# Altium footprint library DO-220AA.PcbLib: 1 footprints
Each footprint in its own frame and in the unit in brackets; x right, y up, seen from the top. Pads: shape width x height; smd on the part's side, far side on the other; paste and mask are expansions set on the pad; w line width, h text height; cw(c..) or ccw(c..) is an arc to the next point about the centre after c.
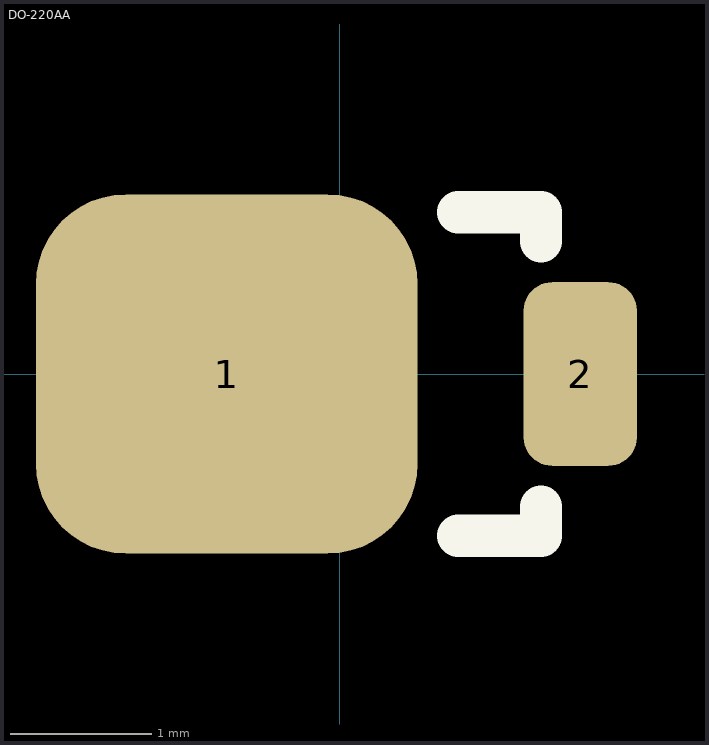
[diagram p0: the footprint, top view; thin cyan lines are the x and y axes]

## DO-220AA [mm]
pads (2):
  rrect50% 2.7x2.54 smd: 1(-0.8,0)
  rrect50% 0.8x1.3 smd: 2(1.7,0)
Top Overlay:
  lines w0.3: 0.838,-1.143 1.422,-1.143 1.422,-0.94 ; 0.838,1.143 1.422,1.143 1.422,0.94
3D body "User Library-DO-220AA-1.STEP": height 1.15, standoff 0, extent -1.973,-1.154 1.956,1.154